# Altium integrated library 6pins.IntLib: 2 symbols
Pins are listed as number, name and electrical type; pins without a type are passive.

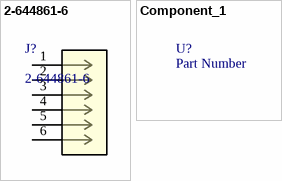
[diagram p0: symbols 2-644861-6 to Component_1]

## 2-644861-6
designator J?
No Description Available; Vendor: TE Connectivity; Built_By: EMA_Kyle; SourceLibrary: TE_Connectivity_2020-09-09; Datasheet: https://www.te.com/commerce/DocumentDelivery/DDEController?Action=showdoc&DocId=Customer+Drawing%7F644861%7FN%7Fpdf%7FEnglish%7FENG_CD_644861_N_baseFilename.pdf%7F2-644861-6; Manufacturer_Part_Number: 2-644861-6; Copyright: Copyright (C) 2018 Accelerated Designs. All rights reserved; RefDes: RefDes; Type: DEV
footprint CONN6_2-644861-6_TEC
pins: 1, 2, 3, 4, 5, 6

## Component_1
designator U?, comment Part Number
XXX - Description - Package; GRAMS Lib Spec: 2.7